# EAGLE library part MSP430FR2422IPW16R (library ELEC327 copy)
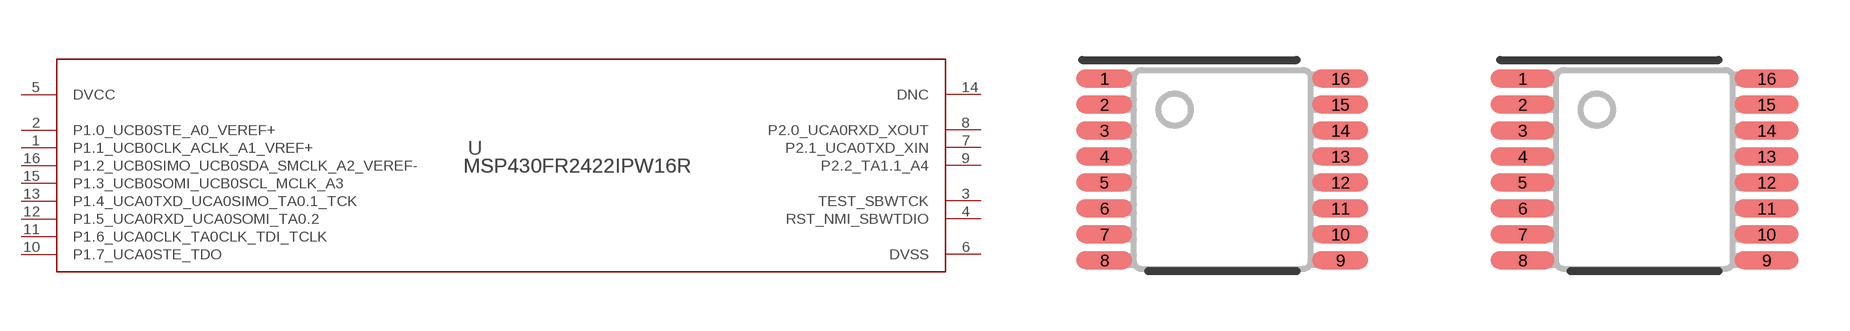
[diagram p4: symbol with the pads of PW0016A_N; footprints PW0016A_N, PW0016A_M]

Designator prefix U

## MSP430FR2422IPW16R (COPYRIGHT: Copyright (C) 2023 Ultra Librarian. All rights reserved.; MANUFACTURER_PART_NUMBER: MSP430FR2422IPW16R; MFR_NAME: Texas Instruments; REFDES: RefDes; TYPE: TYPE)  [PW0016A_N]
1  P1.1_UCB0CLK_ACLK_A1_VREF+
2  P1.0_UCB0STE_A0_VEREF+
3  TEST_SBWTCK  in
4  RST_NMI_SBWTDIO
5  DVCC  pwr
6  DVSS  pwr
7  P2.1_UCA0TXD_XIN
8  P2.0_UCA0RXD_XOUT
9  P2.2_TA1.1_A4
10  P1.7_UCA0STE_TDO
11  P1.6_UCA0CLK_TA0CLK_TDI_TCLK
12  P1.5_UCA0RXD_UCA0SOMI_TA0.2
13  P1.4_UCA0TXD_UCA0SIMO_TA0.1_TCK
14  DNC  pwr
15  P1.3_UCB0SOMI_UCB0SCL_MCLK_A3
16  P1.2_UCB0SIMO_UCB0SDA_SMCLK_A2_VEREF-

## MSP430FR2422IPW16RPW0016A_M (COPYRIGHT: Copyright (C) 2023 Ultra Librarian. All rights reserved.; MANUFACTURER_PART_NUMBER: MSP430FR2422IPW16R; MFR_NAME: Texas Instruments; REFDES: RefDes; TYPE: TYPE)  [PW0016A_M]
Pads as for PW0016A_N

## MSP430FR2422IPW16RPW0016A_L (COPYRIGHT: Copyright (C) 2023 Ultra Librarian. All rights reserved.; MANUFACTURER_PART_NUMBER: MSP430FR2422IPW16R; MFR_NAME: Texas Instruments; REFDES: RefDes; TYPE: TYPE)  [PW0016A_L]
Pads as for PW0016A_N

## Footprint PW0016A_N (pad centres in mm)
smd 1.4 x 0.45: 1 -2.95,2.275; 2 -2.95,1.625; 3 -2.95,0.975; 4 -2.95,0.325; 5 -2.95,-0.325; 6 -2.95,-0.975; 7 -2.95,-1.625; 8 -2.95,-2.275; 9 2.95,-2.275; 10 2.95,-1.625; 11 2.95,-0.975; 12 2.95,-0.325; 13 2.95,0.325; 14 2.95,0.975; 15 2.95,1.625; 16 2.95,2.275

## Footprint PW0016A_M (pad centres in mm)
smd 1.6 x 0.45: 1 -3.05,2.275; 2 -3.05,1.625; 3 -3.05,0.975; 4 -3.05,0.325; 5 -3.05,-0.325; 6 -3.05,-0.975; 7 -3.05,-1.625; 8 -3.05,-2.275; 9 3.05,-2.275; 10 3.05,-1.625; 11 3.05,-0.975; 12 3.05,-0.325; 13 3.05,0.325; 14 3.05,0.975; 15 3.05,1.625; 16 3.05,2.275

## Footprint PW0016A_L (pad centres in mm)
smd 1.2 x 0.4: 1 -2.85,2.275; 2 -2.85,1.625; 3 -2.85,0.975; 4 -2.85,0.325; 5 -2.85,-0.325; 6 -2.85,-0.975; 7 -2.85,-1.625; 8 -2.85,-2.275; 9 2.85,-2.275; 10 2.85,-1.625; 11 2.85,-0.975; 12 2.85,-0.325; 13 2.85,0.325; 14 2.85,0.975; 15 2.85,1.625; 16 2.85,2.275